# Altium footprint library Galileo_Control_Board_Library.PcbLib: 15 footprints
Each footprint in its own frame and in the unit in brackets; x right, y up, seen from the top. Pads: shape width x height; smd on the part's side, far side on the other; paste and mask are expansions set on the pad; w line width, h text height; cw(c..) or ccw(c..) is an arc to the next point about the centre after c.
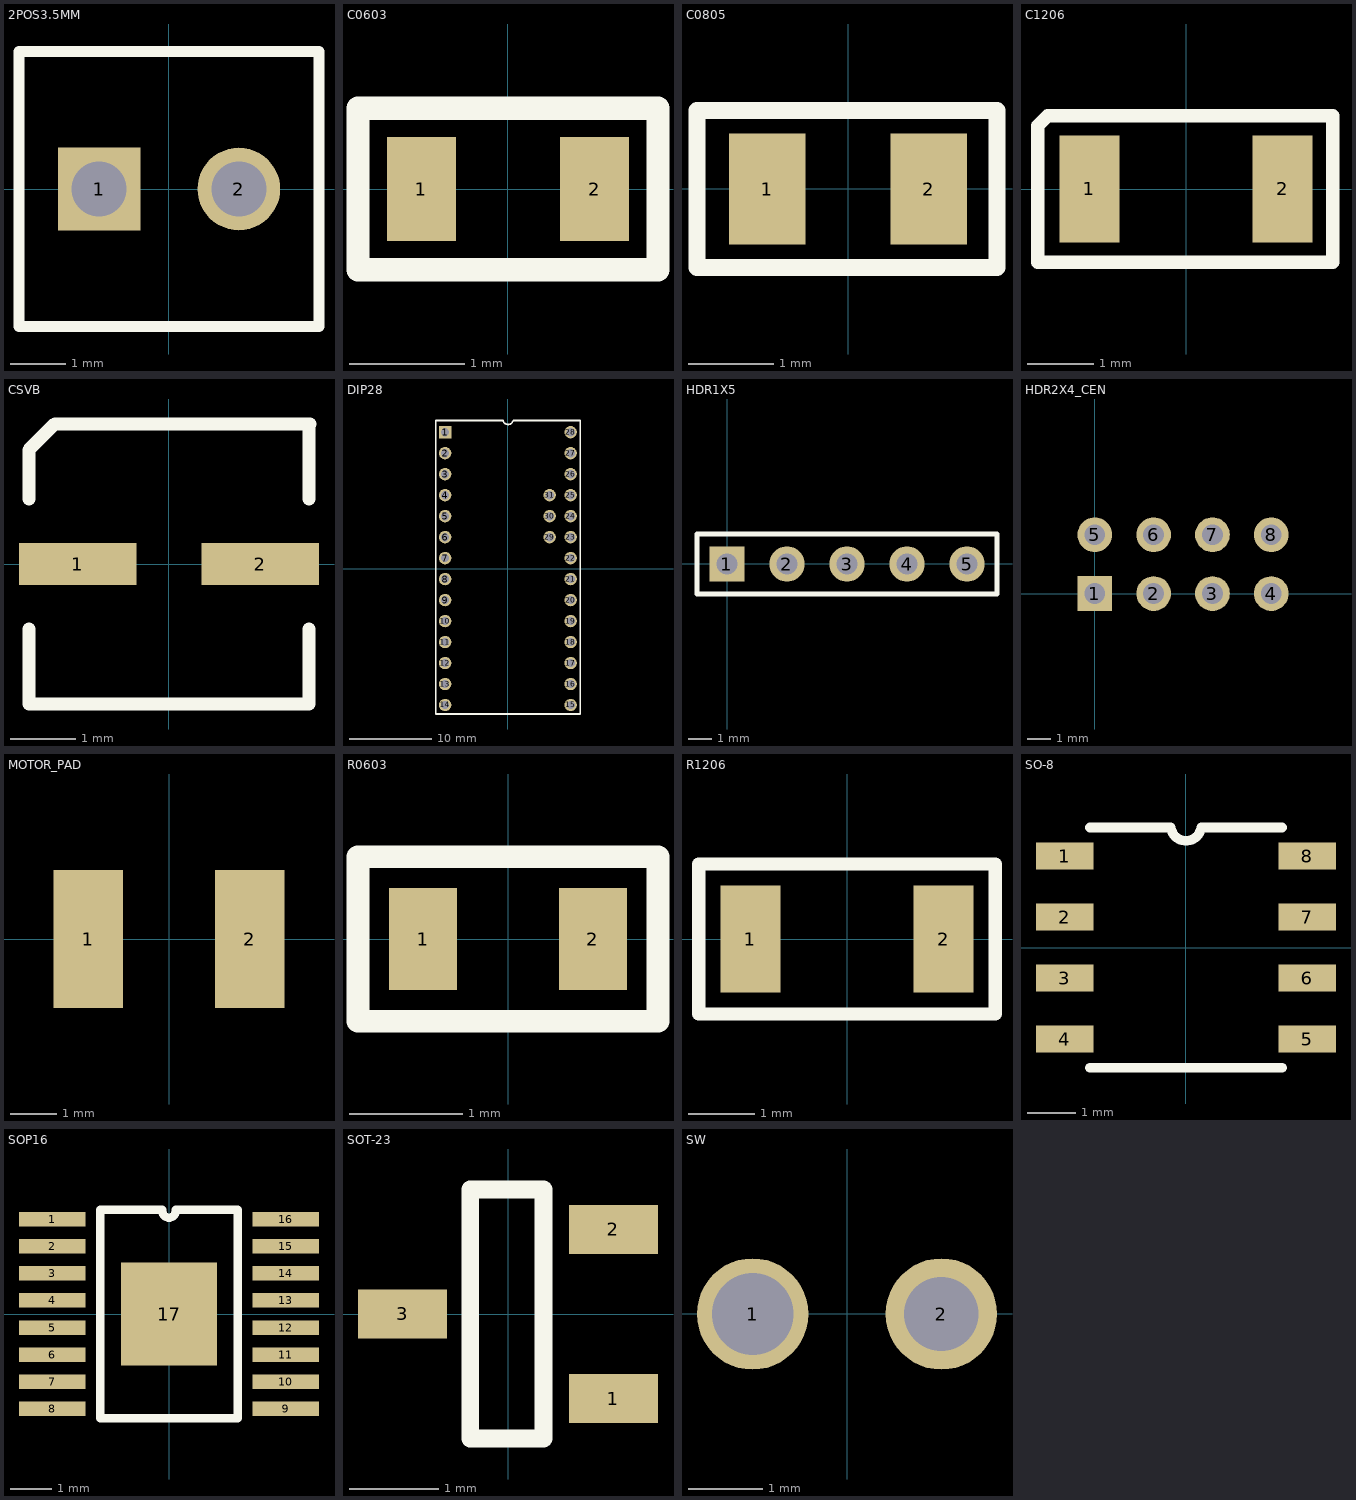
[diagram p0: the footprints below, top view; thin cyan lines are the x and y axes]

## 2POS3.5MM [mm]
pads (2):
  rect 1.5x1.5 hole 1: 1(-1.27,0)
  round 1.5 hole 1: 2(1.27,0)
Top Overlay:
  lines w0.2: -2.725,-2.5 -2.725,2.5 2.725,2.5 2.725,-2.5 -2.725,-2.5

## C0603 [mm]
pads (2):
  rect 0.6x0.9 smd: 1(-0.75,0) 2(0.75,0)
Top Overlay:
  lines w0.2: -1.3,-0.7 1.3,-0.7 1.3,0.7 -1.3,0.7 -1.3,-0.7

## C0805 [mm]
pads (2):
  rect 0.9x1.3 smd: 1(-0.95,0) 2(0.95,0)
Top Overlay:
  lines w0.2: -1.778,-0.925 -1.778,-0.45 -1.778,0.45 -1.778,0.925 1.75,0.925 1.75,-0.925 -1.778,-0.925

## C1206 [mm]
pads (2):
  rect 0.9x1.6 smd: 1(-1.45,0) 2(1.45,0)
Top Overlay:
  lines w0.2: -2.225,-1.1 -2.225,0.95 -2.075,1.1 2.2,1.1 2.2,-1.1 -2.225,-1.1

## CSVB [mm]
pads (2):
  rect 1.8x0.65 smd: 1(-1.4,0) 2(1.4,0)
Top Overlay:
  lines w0.2: -2.15,-1 -2.15,-2.15 2.15,-2.15 2.15,-1 ; -2.15,1 -2.15,1.75 -1.75,2.15 2.159,2.15 ; 2.15,1 2.15,2.15

## DIP28 [mm]
pads (31):
  rect 1.5x1.5 hole 1 mask+0.1: 1(-7.6,16.51)
  round 1.5 hole 1 mask+0.1: 2(-7.6,13.97) 3(-7.6,11.43) 4(-7.6,8.89) 5(-7.6,6.35) 6(-7.6,3.81) 7(-7.6,1.27) 8(-7.6,-1.27) 9(-7.6,-3.81) 10(-7.6,-6.35) 11(-7.6,-8.89) 12(-7.6,-11.43) 13(-7.6,-13.97) 14(-7.6,-16.51) 15(7.6,-16.51) 16(7.6,-13.97) 17(7.6,-11.43) 18(7.6,-8.89) 19(7.6,-6.35) 20(7.6,-3.81) 21(7.6,-1.27) 22(7.6,1.27) 23(7.6,3.81) 24(7.6,6.35) 25(7.6,8.89) 26(7.6,11.43) 27(7.6,13.97) 28(7.6,16.51) 29(5.06,3.81) 30(5.06,6.35) 31(5.06,8.89)
Top Overlay:
  lines w0.2: -0.587,17.911 ccw(c0.025,18.08) 0.635,17.904 ; -0.575,17.925 -8.725,17.925 -8.725,-17.6 8.75,-17.6 8.75,17.925 0.675,17.925

## HDR1X5 [mm] "Connector; Header; 5 Position"
pads (5):
  rect 1.5x1.5 hole 0.9: 1(0,0)
  round 1.5 hole 0.9: 2(2.54,0) 3(5.08,0) 4(7.62,0) 5(10.16,0)
Top Overlay:
  lines w0.2: -1.27,-1.27 -1.27,1.27 11.43,1.27 11.43,-1.27 -1.27,-1.27

## HDR2X4_CEN [mm] "Connector; Header; 4x2 Position"
pads (8):
  rect 1.5x1.5 hole 0.9: 1(0,0)
  round 1.5 hole 0.9: 2(2.54,0) 3(5.08,0) 4(7.62,0) 5(0,2.54) 6(2.54,2.54) 7(5.08,2.54) 8(7.62,2.54)
Top Overlay:

## MOTOR_PAD [mm]
pads (2):
  rect 1.5x3 smd: 1(-1.75,0) 2(1.75,0)

## R0603 [mm]
pads (2):
  rect 0.6x0.9 smd: 1(-0.75,0) 2(0.75,0)
Top Overlay:
  lines w0.2: -1.325,-0.725 1.325,-0.725 1.325,0.725 -1.325,0.725 -1.325,-0.725

## R1206 [mm]
pads (2):
  rect 0.9x1.6 smd: 1(-1.45,0) 2(1.45,0)
Top Overlay:
  lines w0.2: -2.225,-1.125 2.225,-1.125 2.225,1.125 -2.225,1.125 -2.225,-1.125
3D body: height 0.64, standoff 0, extent -1.1,-0.8 1.1,0.8
3D body: height 0.64, standoff 0, extent -1.6,-0.8 -1.1,0.8
3D body: height 0.64, standoff 0, extent 1.1,-0.8 1.6,0.8

## SO-8 [mm]
pads (8):
  rect 1.194x0.559 smd: 1(-2.527,1.905) 2(-2.527,0.635) 3(-2.527,-0.635) 4(-2.527,-1.905) 5(2.527,-1.905) 6(2.527,-0.635) 7(2.527,0.635) 8(2.527,1.905)
Top Overlay:
  lines w0.2: -2,-2.5 2,-2.5 ; -2,2.5 -0.318,2.5 ; -0.315,2.498 ccw(c0,2.54) 0.315,2.498 ; 0.318,2.5 2,2.5

## SOP16 [mm]
pads (17):
  rect 1.6x0.35 smd mask+0.075: 1(-2.8,2.275) 2(-2.8,1.625) 3(-2.8,0.975) 4(-2.8,0.325) 5(-2.8,-0.325) 6(-2.8,-0.975) 7(-2.8,-1.625) 8(-2.8,-2.275) 9(2.8,-2.275) 10(2.8,-1.625) 11(2.8,-0.975) 12(2.8,-0.325) 13(2.8,0.325) 14(2.8,0.975) 15(2.8,1.625) 16(2.8,2.275)
  rect 2.31x2.46 smd: 17(0,0)
Top Overlay:
  lines w0.2: -0.162,2.475 ccw(c0,2.475) 0.162,2.475 ; -0.162,2.5 -1.65,2.5 -1.65,-2.5 1.65,-2.5 1.65,2.5 0.162,2.5

## SOT-23 [mm]
pads (3):
  rect 1x0.55 smd mask+0.07: 1(1.185,-0.95) 2(1.185,0.95) 3(-1.185,0)
Top Overlay:
  lines w0.2: -0.425,-1.4 -0.425,1.4 0.375,1.4 ; -0.4,-1.4 0.4,-1.4 0.4,1.4

## SW [mm]
pads (2):
  round 1.5 hole 1.1: 1(-1.27,0)
  round 1.5 hole 1: 2(1.27,0)